# Altium schematic symbol library Elreg_Sender.SchLib: 58 symbols
Pins are listed as number, name and electrical type; pins without a type are passive.

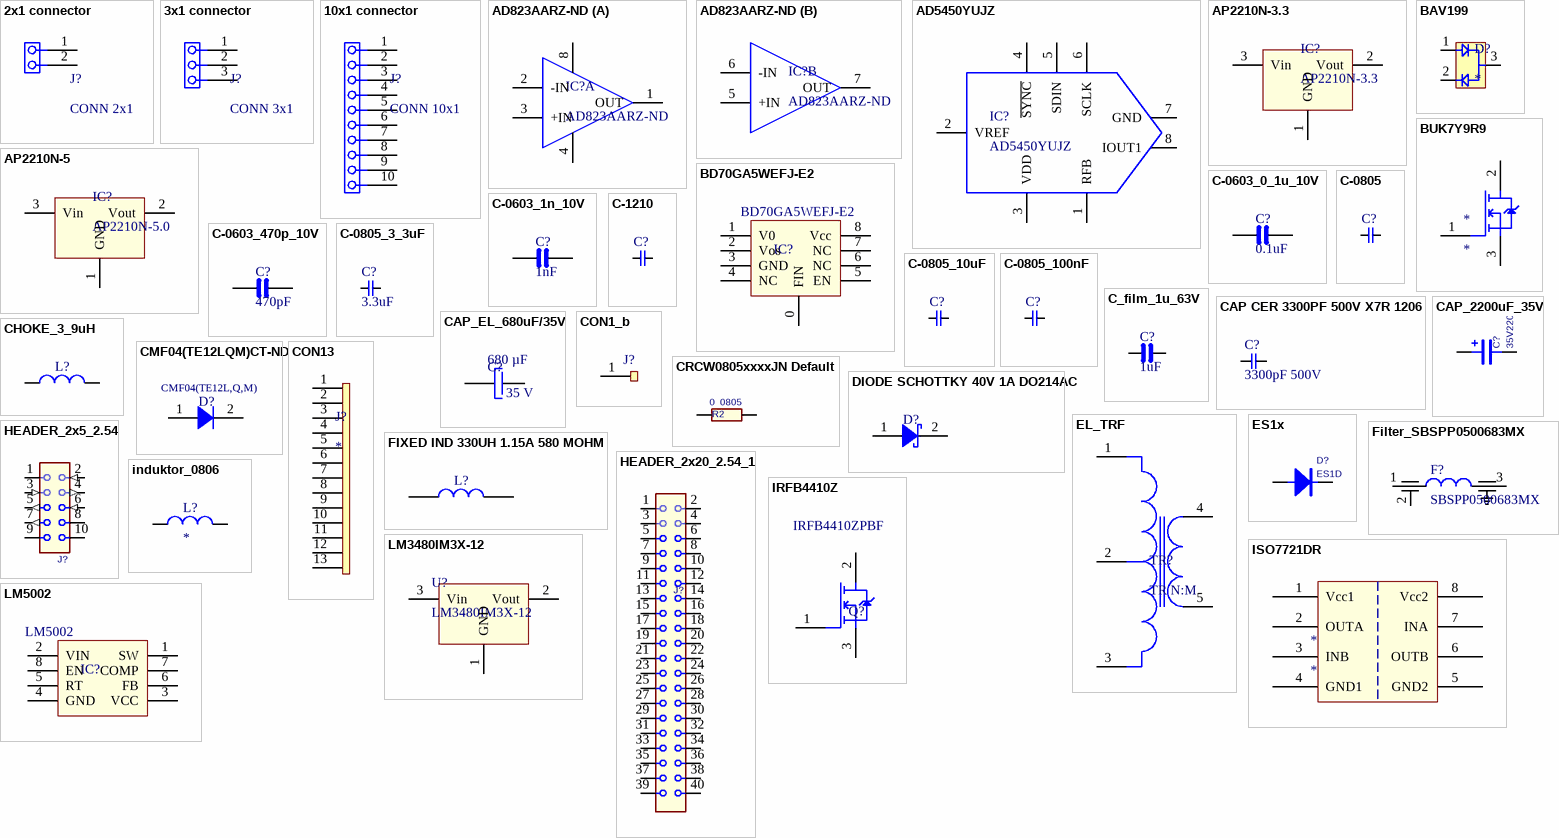
[diagram p0: symbols 2x1 connector to LM5002]

## 2x1 connector
designator J?, comment CONN 2x1
footprint WAGO_2_pins
pins: 1 Vout, 2 Vout

## 3x1 connector
designator J?, comment CONN 3x1
footprint WAGO-3_pins (3 pin connector)
pins: 1 Vout, 2 Vout, 3 Vout

## 10x1 connector
designator J?, comment CONN 10x1
footprint CONN 10x1
pins: 1 Vout, 2 Vout, 3 Vout, 4 Vout, 5 Vout, 6 Vout, 7 Vout, 8 Vout, 9 Vout, 10 Vout

## AD823AARZ-ND
designator IC?
IC OPAMP JFET 16MHZ RRO 8-MSOP; Supplier 1: Digi-Key; Supplier Part Number 1: AD823ARZ-ND
footprint TSOP65P280X110-8N (TSOP, 8-Leads, Body 2.90x1.60mm, Pitch 0.65mm, IPC Medium Density)
footprint SOIC-8 (TSOP, 8-Leads, Body 4.90x3.90mm, Pitch 1.27mm, IPC Medium Density)
part A pins: 1 OUT, 2 -IN, 3 +IN, 4 -Vs, 8 +Vs
part B pins: 5 +IN, 6 -IN, 7 OUT

## AD5450YUJZ
designator IC?
IC DAC 8BIT MULT 50MHZ TSOT23-8; Supplier 1: Digi-Key; Supplier Part Number 1: AD5450YUJZ-REEL7TR-ND
footprint TSOP65P280X110-8N (TSOP, 8-Leads, Body 2.90x1.60mm, Pitch 0.65mm, IPC Medium Density)
pins: 1 RFB, 2 VREF, 3 VDD, 4 ~{SYNC}, 5 SDIN, 6 SCLK, 7 GND, 8 IOUT1

## AP2210N-3.3
designator IC?
AP2210N-3.3TRG1DICT-ND
footprint SOT23-3 (SOT23, 3-Leads, Body 2.90x2.55mm, Pitch 0.95mm, IPC Medium Density)
pins: 1 GND, 2 Vout, 3 Vin

## AP2210N-5
designator IC?, comment AP2210N-5.0
AP2210N-5.0TRG1DICT-ND
footprint SOT23-3 (SOT23, 3-Leads, Body 2.90x2.55mm, Pitch 0.95mm, IPC Medium Density)
pins: 1 GND, 2 Vout, 3 Vin

## BAV199
designator D?
footprint SOT90P240X100-3N (SOT23, 3-Leads, Body 2.90x2.40mm, Pitch 0.90mm, IPC Medium Density)
footprint BAV199 (SOT23, 3-Leads, Body 2.90x2.40mm, Pitch 0.90mm, IPC Medium Density)
pins: 1 GND, 2 GND, 3 GND

## BD70GA5WEFJ-E2
designator IC?  (value not drawn)
BD70GA5WEFJ-E2; Manufacturer 1: Texas Instruments; Manufacturer Part Number 1: LM5002SD/NOPB; Description 1: IC REG MULT CONFIG ISO ADJ 8WSON; Category 1: Integrated Circuits (ICs); Function: Step-Up, Step-Up/Step-Down; Output Configuration: Positive, Isolation Capable; Topology: Boost, Flyback, Forward Converter, SEPIC; Output Type: Adjustable; Number of Outputs: 1; Voltage - Input (Min): 3.1V; Voltage - Input (Max): 75V; Voltage - Output (Max): 76V (Switch); Current - Output: 400mA (Switch); Frequency - Switching: 50kHz ~ 1.5MHz; Synchronous Rectifier: No; Supplier 1: Digi-Key; Supplier Part Number 1: LM5002SD/NOPBTR-ND; RoHS 1: RoHS Compliant; Stock 1: 3000; Pricing 1: 1000=1.9656, 2000=1.86732, 5000=1.79712 (USD); Packaging: Tape & Reel (TR); Part Status: Active; Voltage - Output (Min/Fixed): 3.1V; Operating Temperature: -40°C ~ 125°C (TJ); Mounting Type: Surface Mount; Package / Case: 8-WDFN Exposed Pad; Supplier Device Package: 8-WSON (4x4); ComponentLink1URL: http://www.ti.com/lit/ds/symlink/lm5002.pdf; ComponentLink1Description: http://www.ti.com/lit/ds/symlink/lm5002.pdf; Base Part Number: BD70GA5WEFJ-E2
footprint HTSOP-J8 (TSOP, 8-Leads, Body 4.90x3.90mm, Pitch 1.27mm, IPC Medium Density)
pins: 0 FIN, 1 V0, 2 Vos, 3 GND, 4 NC, 5 EN, 6 NC, 7 NC, 8 Vcc

## BUK7Y9R9
designator *
footprint BUK7Y9R) (MOS FET)
pins: 1 G, 2 G, 3 G

## C-0603_0_1u_10V
designator C?, comment 0.1uF
CAP CER 0.1UF 10V X7R 0603; Manufacturer Part Number: 885012206020
footprint C-0603 (Capacitors 0603)
pins: 1, 2

## C-0603_1n_10V
designator C?, comment 1nF
CAP CER 1000PF 10V C0G/NP0 0603; Manufacturer Part Number: 885012006014
footprint C-0603 (Capacitors 0603)
pins: 1, 2

## C-0603_470p_10V
designator C?, comment 470pF
CAP CER 470p 10V C0G/NP0 0603; Manufacturer Part Number: 885012006014
footprint C-0603 (Capacitors 0603)
pins: 1, 2

## C-0805
designator C?
Manufacturer 1: Yageo; Manufacturer Part Number 1: CC1206KKX7RBBB332; Tolerance: ±10%; Voltage - Rated: 500V; Temperature Coefficient: X7R; Notification: Current market demand for these product types have resulted in fluctuating and extending lead times. Lead times may differ.; Description 1: CAP CER 3300PF 500V X7R 1206; Category 1: Capacitors; Packaging: Cut Tape (CT); Part Status: Active; Operating Temperature: -55°C ~ 125°C; Features: -; Ratings: -; Applications: General Purpose; Failure Rate: -; Mounting Type: Surface Mount, MLCC; Package / Case: 1206 (3216 Metric); Size / Dimension: 0.126" L x 0.063" W (3.20mm x 1.60mm); Height - Seated (Max): -; Thickness (Max): 0.057" (1.45mm); Lead Spacing: -; Lead Style: -; ComponentLink1URL: http://www.yageo.com/documents/recent/UPY-NP0X7R_MV_100-to-630V_21.pdf; ComponentLink1Description: http://www.yageo.com/documents/recent/UPY-NP0X7R_MV_100-to-630V_21.pdf; Supplier 1: Digi-Key; Supplier Part Number 1: 311-1506-1-ND; RoHS 1: RoHS Compliant; Stock 1: 4928; Pricing 1: 1=0.31, 10=0.214, 100=0.1085, 500=0.07424, 1000=0.06568 (USD)
footprint C-0805 (0805)
pins: 1 G, 2 G

## C-0805_3_3uF
designator C?, comment 3.3uF
Manufacturer 1: Yageo; Manufacturer Part Number 1: CC1206KKX7RBBB332; Tolerance: ±10%; Voltage - Rated: 500V; Temperature Coefficient: X7R; Notification: Current market demand for these product types have resulted in fluctuating and extending lead times. Lead times may differ.; Description 1: CAP CER 3300PF 500V X7R 1206; Category 1: Capacitors; Packaging: Cut Tape (CT); Part Status: Active; Operating Temperature: -55°C ~ 125°C; Features: -; Ratings: -; Applications: General Purpose; Failure Rate: -; Mounting Type: Surface Mount, MLCC; Package / Case: 1206 (3216 Metric); Size / Dimension: 0.126" L x 0.063" W (3.20mm x 1.60mm); Height - Seated (Max): -; Thickness (Max): 0.057" (1.45mm); Lead Spacing: -; Lead Style: -; ComponentLink1URL: http://www.yageo.com/documents/recent/UPY-NP0X7R_MV_100-to-630V_21.pdf; ComponentLink1Description: http://www.yageo.com/documents/recent/UPY-NP0X7R_MV_100-to-630V_21.pdf; Supplier 1: Digi-Key; Supplier Part Number 1: 311-1506-1-ND; RoHS 1: RoHS Compliant; Stock 1: 4928; Pricing 1: 1=0.31, 10=0.214, 100=0.1085, 500=0.07424, 1000=0.06568 (USD)
footprint C-0805 (0805)
pins: 1 G, 2 G

## C-0805_10uF
designator C?
Manufacturer 1: Yageo; Manufacturer Part Number 1: CC1206KKX7RBBB332; Tolerance: ±10%; Voltage - Rated: 500V; Temperature Coefficient: X7R; Notification: Current market demand for these product types have resulted in fluctuating and extending lead times. Lead times may differ.; Description 1: CAP CER 3300PF 500V X7R 1206; Category 1: Capacitors; Packaging: Cut Tape (CT); Part Status: Active; Operating Temperature: -55°C ~ 125°C; Features: -; Ratings: -; Applications: General Purpose; Failure Rate: -; Mounting Type: Surface Mount, MLCC; Package / Case: 1206 (3216 Metric); Size / Dimension: 0.126" L x 0.063" W (3.20mm x 1.60mm); Height - Seated (Max): -; Thickness (Max): 0.057" (1.45mm); Lead Spacing: -; Lead Style: -; ComponentLink1URL: http://www.yageo.com/documents/recent/UPY-NP0X7R_MV_100-to-630V_21.pdf; ComponentLink1Description: http://www.yageo.com/documents/recent/UPY-NP0X7R_MV_100-to-630V_21.pdf; Supplier 1: Digi-Key; Supplier Part Number 1: 311-1506-1-ND; RoHS 1: RoHS Compliant; Stock 1: 4928; Pricing 1: 1=0.31, 10=0.214, 100=0.1085, 500=0.07424, 1000=0.06568 (USD)
footprint C-0805 (0805)
pins: 1 G, 2 G

## C-0805_100nF
designator C?
Manufacturer 1: Yageo; Manufacturer Part Number 1: CC1206KKX7RBBB332; Tolerance: ±10%; Voltage - Rated: 500V; Temperature Coefficient: X7R; Notification: Current market demand for these product types have resulted in fluctuating and extending lead times. Lead times may differ.; Description 1: CAP CER 3300PF 500V X7R 1206; Category 1: Capacitors; Packaging: Cut Tape (CT); Part Status: Active; Operating Temperature: -55°C ~ 125°C; Features: -; Ratings: -; Applications: General Purpose; Failure Rate: -; Mounting Type: Surface Mount, MLCC; Package / Case: 1206 (3216 Metric); Size / Dimension: 0.126" L x 0.063" W (3.20mm x 1.60mm); Height - Seated (Max): -; Thickness (Max): 0.057" (1.45mm); Lead Spacing: -; Lead Style: -; ComponentLink1URL: http://www.yageo.com/documents/recent/UPY-NP0X7R_MV_100-to-630V_21.pdf; ComponentLink1Description: http://www.yageo.com/documents/recent/UPY-NP0X7R_MV_100-to-630V_21.pdf; Supplier 1: Digi-Key; Supplier Part Number 1: 311-1506-1-ND; RoHS 1: RoHS Compliant; Stock 1: 4928; Pricing 1: 1=0.31, 10=0.214, 100=0.1085, 500=0.07424, 1000=0.06568 (USD)
footprint C-0805 (0805)
pins: 1 G, 2 G

## C-1210
designator C?
Manufacturer 1: Yageo; Manufacturer Part Number 1: CC1206KKX7RBBB332; Tolerance: ±10%; Voltage - Rated: 500V; Temperature Coefficient: X7R; Notification: Current market demand for these product types have resulted in fluctuating and extending lead times. Lead times may differ.; Description 1: CAP CER 3300PF 500V X7R 1206; Category 1: Capacitors; Packaging: Cut Tape (CT); Part Status: Active; Operating Temperature: -55°C ~ 125°C; Features: -; Ratings: -; Applications: General Purpose; Failure Rate: -; Mounting Type: Surface Mount, MLCC; Package / Case: 1206 (3216 Metric); Size / Dimension: 0.126" L x 0.063" W (3.20mm x 1.60mm); Height - Seated (Max): -; Thickness (Max): 0.057" (1.45mm); Lead Spacing: -; Lead Style: -; ComponentLink1URL: http://www.yageo.com/documents/recent/UPY-NP0X7R_MV_100-to-630V_21.pdf; ComponentLink1Description: http://www.yageo.com/documents/recent/UPY-NP0X7R_MV_100-to-630V_21.pdf; Supplier 1: Digi-Key; Supplier Part Number 1: 311-1506-1-ND; RoHS 1: RoHS Compliant; Stock 1: 4928; Pricing 1: 1=0.31, 10=0.214, 100=0.1085, 500=0.07424, 1000=0.06568 (USD)
footprint CAP-1210 (Capacitors, SMD, 1210)
pins: 1 G, 2 G

## C_film_1u_63V
designator C?, comment 1uF
B32529D1105K289, Film Capacitors  1u, 63V; Manufacturer Part Number: B32529D1105K289
footprint Capacitor_5mm
pins: 1, 2

## CAP CER 3300PF 500V X7R 1206
designator C?, comment 3300pF 500V
Manufacturer 1: Yageo; Manufacturer Part Number 1: CC1206KKX7RBBB332; Tolerance: ±10%; Temperature Coefficient: X7R; Notification: Current market demand for these product types have resulted in fluctuating and extending lead times. Lead times may differ.; Description 1: CAP CER 3300PF 500V X7R 1206; Category 1: Capacitors; Packaging: Cut Tape (CT); Part Status: Active; Voltage - Rated: 500V; Operating Temperature: -55°C ~ 125°C; Features: -; Ratings: -; Applications: General Purpose; Failure Rate: -; Mounting Type: Surface Mount, MLCC; Package / Case: 1206 (3216 Metric); Size / Dimension: 0.126" L x 0.063" W (3.20mm x 1.60mm); Height - Seated (Max): -; Thickness (Max): 0.057" (1.45mm); Lead Spacing: -; Lead Style: -; ComponentLink1URL: http://www.yageo.com/documents/recent/UPY-NP0X7R_MV_100-to-630V_21.pdf; ComponentLink1Description: http://www.yageo.com/documents/recent/UPY-NP0X7R_MV_100-to-630V_21.pdf; Supplier 1: Digi-Key; Supplier Part Number 1: 311-1506-1-ND; RoHS 1: RoHS Compliant; Stock 1: 4928; Pricing 1: 1=0.31, 10=0.214, 100=0.1085, 500=0.07424, 1000=0.06568 (USD)
footprint CAP1206
pins: 1 G, 2 G

## CAP_2200uF_35V
designator C?, comment 35V2200u
Capacitor; Manufacturer: Kemet; Manufacturer Part Number: ESH228M035AM7AA; Capacitance: 2200µF; Tolerance: ±20%; Voltage Rating: 35V; Lifetime @ Temp.: 2000 Hrs @ 105°C; Supplier 1: Digi-Key; Supplier Part Number 1: 399-6572-ND; RoHS: RoHS Compliant; Category: Capacitors; Stock 1: 1972; Pricing 1: 1=0.98, 10=0.77, 50=0.6676, 100=0.5778, 250=0.5136, 500=0.43656, 1000=0.3852, 2500=0.35952, 5000=0.34668 (USD); Packaging: Bulk; ESR (Equivalent Series Resistance): -; Operating Temperature: -40°C ~ 105°C; Type: -; Applications: General Purpose; Ripple Current: -; Impedance: -; Lead Spacing: 0.295" (7.50mm); Size / Dimension: 0.630" Dia (16.00mm); Height - Seated (Max): 1.063" (27.00mm); Surface Mount Land Size: -; Mounting Type: Through Hole; Package / Case: Radial, Can; ComponentLink1URL: http://www.kemet.com/docfinder?Partnumber=ESH228M035AM7AA; ComponentLink1Description: http://www.kemet.com/docfinder?Partnumber=ESH228M035AM7AA
footprint CAP_16X25 (Polar Capacitors)
pins: 1, 2

## CAP_EL_680uF/35V
designator C?  Capacitance: 680 µF  Rated Voltage: 35 V  (hidden comment: *)
Manufacturer 1: Panasonic; Manufacturer Part Number 1: EEU-FR1V681; Description 1: Cap Aluminum Lytic 680uF 35V 20% (10 X 20mm) Radial 5mm 2180mA 10000h 105C Bulk; Lifetime@Temperature: 10000 Hrs @ 105°C; Impedance: 0.02 O; Type: Radial; Ripple Current: 2180 mA; Supplier 1: Digi-Key; Supplier Part Number 1: P14514-ND; Stock 1: 51236; Pricing 1: 1=0.9, 10=0.686, 100=0.4909, 500=0.3801, 1000=0.3273, 2500=0.3062, 5000=0.2903 (USD); Case Size/Dimension: Ø 10 x 20 mm; Operating Temp-Max: 105 °C; Operating Temp Range: -40 to +105 °C; Series: FR; ComponentLink1URL: http://industrial.panasonic.com/www-data/pdf/ABA0000/ABA0000CE132.pdf; ComponentLink1Description: http://industrial.panasonic.com/www-data/pdf/ABA0000/ABA0000CE132.pdf; ComponentLink2URL: http://www.farnell.com/datasheets/1855691.pdf; ComponentLink2Description: http://www.farnell.com/datasheets/1855691.pdf; ComponentLink3URL: http://uk.rs-online.com/webdocs/0e4e/0900766b80e4e9bf.pdf; ComponentLink3Description: http://uk.rs-online.com/webdocs/0e4e/0900766b80e4e9bf.pdf; ComponentLink4URL: https://www.alliedelec.com/m/d/c64d79662f3315ec05811b9c7d24cbaa.pdf; ComponentLink4Description: https://www.alliedelec.com/m/d/c64d79662f3315ec05811b9c7d24cbaa.pdf
footprint CAP_TR_5mm
pins: 1 Vout, 2 Vout

## CHOKE_3_9uH
designator L?  (value not drawn)
Manufacturer 1: BOURNS; Manufacturer Part Number 1: SRR1260-331K; Description 1: BOURNS - SRR1260-331K - INDUCTOR, SHIELDED, 330UH, 1.1A, SMD; Inductance: 330; RMS Current (Irms): 1.15; Inductor Construction: Shielded; Saturation Current (Isat): 1.1; Product Range: SRR1260 Series; Power Inductor Case: 12.5mm x 12.5mm x 6; Q Factor: 22; Supplier 1: Farnell; Supplier Part Number 1: 2458509; RoHS 1: YES; Stock 1: 143; Pricing 1: 1=0.843, 10=0.721, 25=0.661, 50=0.6, 100=0.552 (GBP); ComponentLink1URL: http://www.farnell.com/datasheets/2251090.pdf; ComponentLink1Description: http://www.farnell.com/datasheets/2251090.pdf
footprint CHOKE_3_9uH
pins: 1 A, 2 A

## CMF04(TE12LQM)CT-ND
designator D?  Manufacturer Part Number 1: CMF04(TE12L,Q,M)  (hidden comment: *)
Manufacturer 1: Toshiba Semiconductor and Storage; Diode Type: Standard; Current - Average Rectified (Io): 500mA; Speed: Fast Recovery =< 500ns, > 200mA (Io); Description 1: DIODE GEN PURP 800V 500MA MFLAT; Category 1: Discrete Semiconductor Products; Packaging: Cut Tape (CT); Part Status: Active; Capacitance @ Vr, F: -; Mounting Type: Surface Mount; Package / Case: SOD-128; Supplier Device Package: M-FLAT (2.4x3.8); Operating Temperature - Junction: -40°C ~ 150°C; Base Part Number: CMF04; ComponentLink1URL: https://toshiba.semicon-storage.com/info/docget.jsp?did=10605&prodName=CMF04; ComponentLink1Description: https://toshiba.semicon-storage.com/info/docget.jsp?did=10605&prodName=CMF04; Supplier 1: Digi-Key; Supplier Part Number 1: CMF04(TE12LQM)CT-ND; RoHS 1: RoHS Compliant; Stock 1: 9000; Pricing 1: 1=0.45, 10=0.381, 100=0.2855, 500=0.20938, 1000=0.16179 (USD)
footprint DFN380P470X45-2N (DFN, 2-Leads, Body 2.40x4.70mm, Pitch 3.80mm, IPC Medium Density)
pins: 1 G, 2 G

## CON1_b
designator J?  (value not drawn)
footprint CONN1 _b
footprint CONN1 _b
pins: 1 23

## CON13
designator J?
footprint CONN13
pins: 1 24, 2 25, 3 26, 4 27, 5 28, 6 29, 7 30, 8 31, 9 32, 10 33, 11 34, 12 35, 13 36

## CRCW0805xxxxJN Default
designator R2, comment 0  0805
RES xx OHM 1/8W 5% 0805 SMD; Category 1: Resistors
footprint RES-0805 (Resistor, SMD, 0805)
pins: 1, 2

## DIODE SCHOTTKY 40V 1A DO214AC
designator D?  (value not drawn)
Manufacturer 1: Comchip Technology; Manufacturer Part Number 1: CDBA140-G; Description 1: DIODE SCHOTTKY 40V 1A DO214AC; Category 1: Discrete Semiconductor Products; Diode Type: Schottky; Current - Average Rectified (Io): 1A; Speed: Fast Recovery =< 500ns, > 200mA (Io); Supplier 1: Digi-Key; Supplier Part Number 1: 641-1015-1-ND; RoHS 1: RoHS Compliant; Stock 1: 527910; Pricing 1: 1=0.37, 10=0.338, 100=0.1893, 500=0.1014, 1000=0.06895 (USD); Packaging: Cut Tape (CT); Part Status: Active; Capacitance @ Vr, F: -; Mounting Type: Surface Mount; Package / Case: DO-214AC, SMA; Supplier Device Package: DO-214AC (SMA); Operating Temperature - Junction: -65°C ~ 125°C; Base Part Number: CDBA140; ComponentLink1URL: http://www.comchiptech.com/admin/files/product/CDBA140-HF%20Thru192841.%20CDBA1100-HF%20RevB.pdf; ComponentLink1Description: http://www.comchiptech.com/admin/files/product/CDBA140-HF%20Thru192841.%20CDBA1100-HF%20RevB.pdf
footprint DFN380P520X45-2N (DFN, 2-Leads, Body 2.50x5.20mm, Pitch 3.80mm, IPC Medium Density)
pins: 1 A, 2 A

## EL_TRF
designator TR?, comment TR N:M
footprint EL_TRAFO2 (23x11mmCoil Former: B6581, ferrite   B65811J0000R087)
pins: 1 G, 2 G, 3 G, 4 G, 5 G

## ES1x
designator D?, comment ES1D
Diode; Manufacturer: Fairchild/ON Semiconductor; Diode Type: Standard; Voltage - DC Reverse (Vr) (Max): 200V; Current - Average Rectified (Io): 1A; Voltage - Forward (Vf) (Max) @ If: 920mV @ 1A; Speed: Fast Recovery =< 500ns, > 200mA (Io); Reverse Recovery Time (trr): 15ns; Current - Reverse Leakage @ Vr: 5μA @ 200V; Capacitance @ Vr, F: 7pF @ 4V, 1MHz; Supplier 1: Digi-Key; Supplier Part Number 1: ES1DFSTR-ND; Manufacturer Part Number: ES1D; RoHS: RoHS Compliant; Category: Discrete Semiconductor Products; Stock 1: 135000; Pricing 1: 7500=0.0567, 15000=0.0504, 37500=0.04725, 52500=0.0419, 187500=0.04032 (USD); Packaging: Tape & Reel (TR); Part Status: Active; Mounting Type: Surface Mount; Package / Case: DO-214AC, SMA; Supplier Device Package: SMA (DO-214AC); Operating Temperature - Junction: -55°C ~ 150°C; ComponentLink1URL: https://www.fairchildsemi.com/datasheets/ES/ES1A.pdf; ComponentLink1Description: https://www.fairchildsemi.com/datasheets/ES/ES1A.pdf
footprint SMA (DO-214AC)
footprint SMA (DO-214AC)
pins: 1 A, 2 C

## Filter_SBSPP0500683MX
designator F?, comment SBSPP0500683MX
footprint Filter_SBSPP0500
pins: 1, 2, 3

## FIXED IND 330UH 1.15A 580 MOHM
designator L?  (value not drawn)
Manufacturer 1: BOURNS; Manufacturer Part Number 1: SRR1260-331K; Description 1: BOURNS - SRR1260-331K - INDUCTOR, SHIELDED, 330UH, 1.1A, SMD; Inductance: 330; RMS Current (Irms): 1.15; Inductor Construction: Shielded; Saturation Current (Isat): 1.1; Product Range: SRR1260 Series; Power Inductor Case: 12.5mm x 12.5mm x 6; Q Factor: 22; Supplier 1: Farnell; Supplier Part Number 1: 2458509; RoHS 1: YES; Stock 1: 143; Pricing 1: 1=0.843, 10=0.721, 25=0.661, 50=0.6, 100=0.552 (GBP); ComponentLink1URL: http://www.farnell.com/datasheets/2251090.pdf; ComponentLink1Description: http://www.farnell.com/datasheets/2251090.pdf
footprint IND
pins: 1 A, 2 A

## HEADER_2x5_2.54
designator J?, comment Header 2X5  (value not drawn)
Conn Unshrouded Header HDR 10 POS 2.54mm Solder ST Thru-Hole; Manufacturer 1: TE Connectivity; Manufacturer Part Number 1: 826656-5; Lead Time: 8 weeks; Peak Solder Temperature: 240 or 260 or 265 deg C; Category 1: Connectors; Supplier 1: Arrow; Supplier Part Number 1: 41579523S111189N5665; RoHS 1: CHINA ROHS: Compliant / EU ROHS: Compliant; Description 1: Conn Unshrouded Header HDR 10 POS 2.54mm Solder ST Thru-Hole; Package Quantity: 4800; Termination Finish: Sn; EU_ROHS_PROD_EXEMPTION_BY_SUPP: N/R; ComponentLink1URL: http://components.arrow.com/partservice/dataview/altium/41579523S111189N5665?apiKey=aa438727d59eed98c4bed826d8d949c84cb5e685b92bf87346a0226bd2658797; ComponentLink1Description: http://components.arrow.com/partservice/dataview/altium/41579523S111189N5665?apiKey=aa438727d59eed98c4bed826d8d949c84cb5e685b92bf87346a0226bd2658797
footprint PIN-2X5-2.54-1.0 (Pin Header)
footprint PIN-2X5-2.54-1.0 (Pin Header)
pins: 1, 2 DSR (in), 3 RX (in), 4 RTS (out), 5 TX (out), 6 CTS (in), 7 DTR (out), 8, 9 +PWR (power), 10

## HEADER_2x20_2.54_1
designator J?, comment Header 2X20  (value not drawn)
Manufacturer 1: TE Connectivity; Manufacturer Part Number 1: 826656-5; Description 1: Conn Unshrouded Header HDR 10 POS 2.54mm Solder ST Thru-Hole; Lead Time: 8 weeks; Peak Solder Temperature: 240 or 260 or 265 deg C; Supplier 1: Arrow; Supplier Part Number 1: 41579523S111189N5665; RoHS 1: CHINA ROHS: Compliant / EU ROHS: Compliant; Package Quantity: 4800; Termination Finish: Sn; EU_ROHS_PROD_EXEMPTION_BY_SUPP: N/R
footprint HEADER_2x20_2_54_1mm (Pin Header)
pins: 1, 2 DSR, 3 RX, 4 RTS, 5 TX, 6 CTS, 7 DTR, 8, 9 +PWR (power), 10, 11, 12, 13, 14, 15, 16, 17, 18, 19 (power), 20, 21, 22, 23, 24, 25, 26, 27, 28, 29 (power), 30, 31, 32, 33, 34, 35, 36, 37, 38, 39, 40

## induktor_0806
designator L?
Manufacturer 1: BOURNS; Manufacturer Part Number 1: SRR1260-331K; Description 1: BOURNS - SRR1260-331K - INDUCTOR, SHIELDED, 330UH, 1.1A, SMD; Inductance: 330; RMS Current (Irms): 1.15; Inductor Construction: Shielded; Saturation Current (Isat): 1.1; Product Range: SRR1260 Series; Power Inductor Case: 12.5mm x 12.5mm x 6; Q Factor: 22; Supplier 1: Farnell; Supplier Part Number 1: 2458509; RoHS 1: YES; Stock 1: 143; Pricing 1: 1=0.843, 10=0.721, 25=0.661, 50=0.6, 100=0.552 (GBP); ComponentLink1URL: http://www.farnell.com/datasheets/2251090.pdf; ComponentLink1Description: http://www.farnell.com/datasheets/2251090.pdf
footprint 0805 (SMD, 0805)
pins: 1 A, 2 A

## IRFB4410Z
designator Q?  Manufacturer Part Number 1: IRFB4410ZPBF  (hidden comment: IRFB4410Z)
MOSFET N-CH 100V 97A TO-220AB; Manufacturer 1: INFINEON; Description 1: INFINEON - IRFB4410ZPBF - MOSFET, N, 100V, TO-220AB; Supplier 1: Farnell; Supplier Part Number 1: 1436963; ComponentLink1URL: http://www.farnell.com/datasheets/1911595.pdf; ComponentLink1Description: http://www.farnell.com/datasheets/1911595.pdf; ComponentLink2URL: http://www.farnell.com/datasheets/2157750.pdf; ComponentLink2Description: http://www.farnell.com/datasheets/2157750.pdf; RoHS 1: YES; Stock 1: 2726; Pricing 1: 5=1.13, 25=1.03, 100=0.787, 250=0.74, 500=0.693, 1000=0.622, 5000=0.55 (GBP)
footprint IRFB
pins: 1 G, 2 G, 3 G

## ISO7721DR
designator *
footprint SOIC-8 -ISO (TSOP, 8-Leads, Body 4.90x3.90mm, Pitch 1.27mm, IPC Medium Density)
pins: 1 Vcc1, 2 OUTA, 3 INB, 4 GND1, 5 GND2, 6 OUTB, 7 INA, 8 Vcc2

## LM3480IM3X-12
designator U?
12V regulator LM3480IM3X-12/NOPB
footprint SOT23-3 (SOT23, 3-Leads, Body 2.90x2.55mm, Pitch 0.95mm, IPC Medium Density)
pins: 1 GND, 2 Vout, 3 Vin

## LM5002
designator IC?  Base Part Number: LM5002  (hidden comment: *)
Manufacturer 1: Texas Instruments; Manufacturer Part Number 1: LM5002SD/NOPB; Description 1: IC REG MULT CONFIG ISO ADJ 8WSON; Category 1: Integrated Circuits (ICs); Function: Step-Up, Step-Up/Step-Down; Output Configuration: Positive, Isolation Capable; Topology: Boost, Flyback, Forward Converter, SEPIC; Output Type: Adjustable; Number of Outputs: 1; Voltage - Input (Min): 3.1V; Voltage - Input (Max): 75V; Voltage - Output (Max): 76V (Switch); Current - Output: 400mA (Switch); Frequency - Switching: 50kHz ~ 1.5MHz; Synchronous Rectifier: No; Supplier 1: Digi-Key; Supplier Part Number 1: LM5002SD/NOPBTR-ND; RoHS 1: RoHS Compliant; Stock 1: 3000; Pricing 1: 1000=1.9656, 2000=1.86732, 5000=1.79712 (USD); Packaging: Tape & Reel (TR); Part Status: Active; Voltage - Output (Min/Fixed): 3.1V; Operating Temperature: -40°C ~ 125°C (TJ); Mounting Type: Surface Mount; Package / Case: 8-WDFN Exposed Pad; Supplier Device Package: 8-WSON (4x4); ComponentLink1URL: http://www.ti.com/lit/ds/symlink/lm5002.pdf; ComponentLink1Description: http://www.ti.com/lit/ds/symlink/lm5002.pdf
footprint SOIC127P600X205-8N (SOIC, 8-Leads, Body 4.90x3.90mm, Pitch 1.27mm, IPC Medium Density)
pins: 1 SW, 2 VIN, 3 VCC, 4 GND, 5 RT, 6 FB, 7 COMP, 8 EN

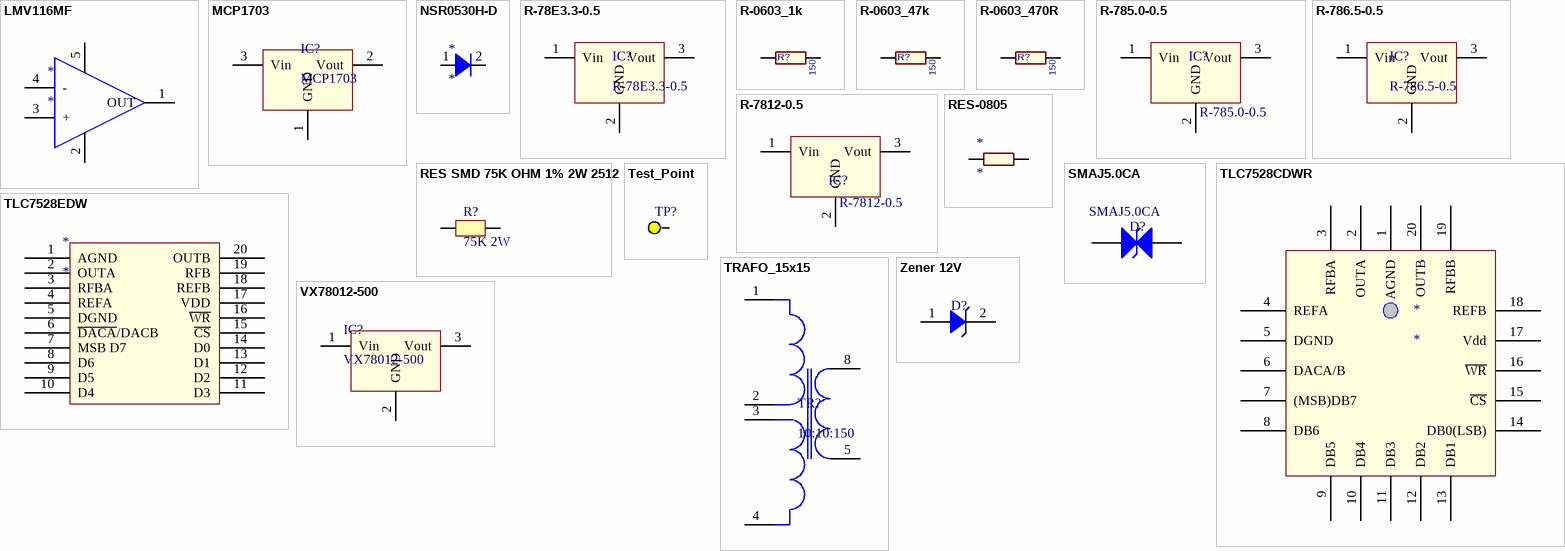
[diagram p1: symbols LMV116MF to Zener 12V]

## LMV116MF
designator *
footprint SOT-23-5 (5 pin SOT23)
pins: 1 OUT, 2 -Vs, 3 +, 4 -, 5 +Vs

## MCP1703
designator IC?
footprint SOT95P255X145-3N (SOT23, 3-Leads, Body 2.90x2.55mm, Pitch 0.95mm, IPC Medium Density)
footprint SOT23-3 (SOT23, 3-Leads, Body 2.90x2.55mm, Pitch 0.95mm, IPC Medium Density)
pins: 1 GND, 2 Vout, 3 Vin

## NSR0530H-D
designator *
footprint SOD-323 (diode)
pins: 1 G, 2 G

## R-78E3.3-0.5
designator IC?
Manufacturer 1: RECOM POWER; Description 1: RECOM POWER - R-78E3.3-0.5 - DC/DC CONVERTER, 1.65W, 3.3V, 0.5A, SIP; No. of Outputs: 1 Output; Output Power Max: 1.65; Output Current Max: 500; DC / DC Converter Output Type: Fixed; DC / DC Converter Mounting: Through Hole; Input Voltage DC Min: 6; Supplier 1: Newark; Supplier Part Number 1: 62X9498; Manufacturer Part Number 1: R-78E3.3-0.5; RoHS 1: YES; Stock 1: 245; Pricing 1: 1=3.57, 10=3.47, 25=3.36, 50=3.18, 100=3.01, 250=2.94, 500=2.86 (USD); Depth: 11.6; ComponentLink1URL: http://www.farnell.com/datasheets/1833229.pdf; ComponentLink1Description: http://www.farnell.com/datasheets/1833229.pdf
footprint VREG
pins: 1 Vin, 2 GND, 3 Vout

## R-0603_1k
designator R?, comment Resistance (Ohms): 150  (hidden comment: 1k)
RES SMD 1K OHM 1% 0.4W 0805; Manufacturer 1: Vishay Dale; Manufacturer Part Number 1: CRCW0805150RJNEA; Manufacturer Part Number: ESR10EZPF1001; Description 1: RES 150 OHM 1/8W 5% 0805 SMD; Category 1: Resistors; Tolerance: ±5%; Power (Watts): 0.125W, 1/8W; Temperature Coefficient: ±200ppm/°C; Description 2: Thick Film Resistors - SMD 1/8watt 150ohms 5% 200ppm; Category 2: Thick Film Resistors - SMD; Power Rating: 125 mW (1/8 W); Resistance: 150 Ohms; Voltage Rating: 150 V; Description 3: VISHAY DALE - CRCW0805150RJNEA - RESISTOR, THICK FILM, 150 OHM, 125mW, 5%; Product Range: VISHAY - CRCW Series; Resistance Tolerance: ± 5%; Resistor Case Style: 0805 ^2012 Metric]; Resistor Element Type: Thick Film; No. of Pins: 2; Supplier 1: Digi-Key; Supplier Part Number 1: 541-150ADKR-ND; RoHS 1: RoHS Compliant; Packaging: Digi-Reel®; Composition: Thick Film; Features: Automotive AEC-Q200 Qualified; Package / Case: 0805 (2012 Metric); Supplier Device Package: 0805 (2012 Metric); Size / Dimension: 0.079" L x 0.049" W (2.00mm x 1.25mm); Height: 0.020" (0.50mm); ComponentLink1URL: http://www.vishay.com/doc?20035; ComponentLink1Description: http://www.vishay.com/doc?20035; Supplier 2: Mouser; Supplier Part Number 2: 71-CRCW0805150RJNEA; Manufacturer 2: Vishay; Manufacturer Part Number 2: CRCW0805150RJNEA; RoHS 2: RoHS Compliant By Exemption; Dimensions: 1.25 mm W x 2 mm L x 0.45 mm H; Operating Temperature Range: - 55 C to + 155 C; Product: Thick Film Resistors SMD; Series: CRCW; Termination Style: SMD/SMT; Case Code - in: 0805; Case Code - mm: 2012; Product Category: 0805 Thick Film Chip Resistors; Standard Pack Qty: 5000; RoHS - Mouser: E; Minimum Order Quantity: 1; Reeling: True; ComponentLink2URL: http://www.mouser.com/ds/2/427/dcrcwe3-109170.pdf; ComponentLink2Description: http://www.mouser.com/ds/2/427/dcrcwe3-109170.pdf; Supplier 3: Farnell; Supplier Part Number 3: 1514819; Manufacturer 3: VISHAY DALE; Manufacturer Part Number 3: CRCW0805150RJNEA; RoHS 3: YES; ComponentLink3URL: http://www.farnell.com/cad/1552534.zip; ComponentLink3Description: http://www.farnell.com/cad/1552534.zip
footprint R-0603 (Resistor  0603)
pins: 1, 2

## R-0603_47k
designator R?, comment Resistance (Ohms): 150  (hidden comment: 47k)
RES SMD 47k 1% 0.4W 0805; Manufacturer 1: Vishay Dale; Manufacturer Part Number 1: CRCW0805150RJNEA; Manufacturer Part Number: ESR10EZPF1001; Description 1: RES 150 OHM 1/8W 5% 0805 SMD; Category 1: Resistors; Tolerance: ±5%; Power (Watts): 0.125W, 1/8W; Temperature Coefficient: ±200ppm/°C; Description 2: Thick Film Resistors - SMD 1/8watt 150ohms 5% 200ppm; Category 2: Thick Film Resistors - SMD; Power Rating: 125 mW (1/8 W); Resistance: 150 Ohms; Voltage Rating: 150 V; Description 3: VISHAY DALE - CRCW0805150RJNEA - RESISTOR, THICK FILM, 150 OHM, 125mW, 5%; Product Range: VISHAY - CRCW Series; Resistance Tolerance: ± 5%; Resistor Case Style: 0805 ^2012 Metric]; Resistor Element Type: Thick Film; No. of Pins: 2; Supplier 1: Digi-Key; Supplier Part Number 1: 541-150ADKR-ND; RoHS 1: RoHS Compliant; Packaging: Digi-Reel®; Composition: Thick Film; Features: Automotive AEC-Q200 Qualified; Package / Case: 0805 (2012 Metric); Supplier Device Package: 0805 (2012 Metric); Size / Dimension: 0.079" L x 0.049" W (2.00mm x 1.25mm); Height: 0.020" (0.50mm); ComponentLink1URL: http://www.vishay.com/doc?20035; ComponentLink1Description: http://www.vishay.com/doc?20035; Supplier 2: Mouser; Supplier Part Number 2: 71-CRCW0805150RJNEA; Manufacturer 2: Vishay; Manufacturer Part Number 2: CRCW0805150RJNEA; RoHS 2: RoHS Compliant By Exemption; Dimensions: 1.25 mm W x 2 mm L x 0.45 mm H; Operating Temperature Range: - 55 C to + 155 C; Product: Thick Film Resistors SMD; Series: CRCW; Termination Style: SMD/SMT; Case Code - in: 0805; Case Code - mm: 2012; Product Category: 0805 Thick Film Chip Resistors; Standard Pack Qty: 5000; RoHS - Mouser: E; Minimum Order Quantity: 1; Reeling: True; ComponentLink2URL: http://www.mouser.com/ds/2/427/dcrcwe3-109170.pdf; ComponentLink2Description: http://www.mouser.com/ds/2/427/dcrcwe3-109170.pdf; Supplier 3: Farnell; Supplier Part Number 3: 1514819; Manufacturer 3: VISHAY DALE; Manufacturer Part Number 3: CRCW0805150RJNEA; RoHS 3: YES; ComponentLink3URL: http://www.farnell.com/cad/1552534.zip; ComponentLink3Description: http://www.farnell.com/cad/1552534.zip
footprint R-0603 (Resistor  0603)
pins: 1, 2

## R-0603_470R
designator R?, comment Resistance (Ohms): 150  (hidden comment: 470R)
RES SMD 470 OHM 1% 0.4W 0805; Manufacturer 1: Vishay Dale; Manufacturer Part Number 1: CRCW0805150RJNEA; Manufacturer Part Number: ESR10EZPF1001; Description 1: RES 150 OHM 1/8W 5% 0805 SMD; Category 1: Resistors; Tolerance: ±5%; Power (Watts): 0.125W, 1/8W; Temperature Coefficient: ±200ppm/°C; Description 2: Thick Film Resistors - SMD 1/8watt 150ohms 5% 200ppm; Category 2: Thick Film Resistors - SMD; Power Rating: 125 mW (1/8 W); Resistance: 150 Ohms; Voltage Rating: 150 V; Description 3: VISHAY DALE - CRCW0805150RJNEA - RESISTOR, THICK FILM, 150 OHM, 125mW, 5%; Product Range: VISHAY - CRCW Series; Resistance Tolerance: ± 5%; Resistor Case Style: 0805 ^2012 Metric]; Resistor Element Type: Thick Film; No. of Pins: 2; Supplier 1: Digi-Key; Supplier Part Number 1: 541-150ADKR-ND; RoHS 1: RoHS Compliant; Packaging: Digi-Reel®; Composition: Thick Film; Features: Automotive AEC-Q200 Qualified; Package / Case: 0805 (2012 Metric); Supplier Device Package: 0805 (2012 Metric); Size / Dimension: 0.079" L x 0.049" W (2.00mm x 1.25mm); Height: 0.020" (0.50mm); ComponentLink1URL: http://www.vishay.com/doc?20035; ComponentLink1Description: http://www.vishay.com/doc?20035; Supplier 2: Mouser; Supplier Part Number 2: 71-CRCW0805150RJNEA; Manufacturer 2: Vishay; Manufacturer Part Number 2: CRCW0805150RJNEA; RoHS 2: RoHS Compliant By Exemption; Dimensions: 1.25 mm W x 2 mm L x 0.45 mm H; Operating Temperature Range: - 55 C to + 155 C; Product: Thick Film Resistors SMD; Series: CRCW; Termination Style: SMD/SMT; Case Code - in: 0805; Case Code - mm: 2012; Product Category: 0805 Thick Film Chip Resistors; Standard Pack Qty: 5000; RoHS - Mouser: E; Minimum Order Quantity: 1; Reeling: True; ComponentLink2URL: http://www.mouser.com/ds/2/427/dcrcwe3-109170.pdf; ComponentLink2Description: http://www.mouser.com/ds/2/427/dcrcwe3-109170.pdf; Supplier 3: Farnell; Supplier Part Number 3: 1514819; Manufacturer 3: VISHAY DALE; Manufacturer Part Number 3: CRCW0805150RJNEA; RoHS 3: YES; ComponentLink3URL: http://www.farnell.com/cad/1552534.zip; ComponentLink3Description: http://www.farnell.com/cad/1552534.zip
footprint R-0603 (Resistor  0603)
pins: 1, 2

## R-785.0-0.5
designator IC?  Manufacturer Part Number 1: R-785.0-0.5  (hidden comment: *)
Manufacturer 1: RECOM POWER; Description 1: RECOM POWER - R-785.0-0.5 - CONVERTER, DC-DC, 5V, 3W; Supplier 1: Farnell; Supplier Part Number 1: 1793142; RoHS 1: YES; Stock 1: 3561; Pricing 1: 1=5.13, 5=4.87, 10=4.36, 50=4.35, 100=4.33 (GBP); ComponentLink1URL: http://www.farnell.com/datasheets/2017554.stp; ComponentLink1Description: http://www.farnell.com/datasheets/2017554.stp; ComponentLink2URL: http://www.farnell.com/datasheets/1833220.pdf; ComponentLink2Description: http://www.farnell.com/datasheets/1833220.pdf
footprint VREG
pins: 1 Vin, 2 GND, 3 Vout

## R-786.5-0.5
designator IC?
Manufacturer 1: Recom Power; Description 1: DC DC CONVERTER 6.5V 3W; Category 1: Power Supplies - Board Mount; Voltage - Input (Min): 8V; Voltage - Input (Max): 32V; Voltage - Output 1: 6.5V; Current - Output (Max): 500mA; Efficiency: 95%; Supplier 1: Digi-Key; Supplier Part Number 1: 945-1039-ND; Manufacturer Part Number 1: R-786.5-0.5; RoHS 1: RoHS Compliant; Stock 1: 3490; Pricing 1: 1=7.49, 5=7.384, 10=7.276, 42=7.0619, 84=6.84798, 126=6.63397, 252=6.42, 504=5.992 (USD); Packaging: Tube; Part Status: Active; Type: Linear Regulator Replacement; Voltage - Output 2: -; Voltage - Output 3: -; Applications: ITE (Commercial); Features: OTP, SCP; Operating Temperature: -40°C ~ 85°C; Mounting Type: Through Hole; Package / Case: 3-SIP Module; Size / Dimension: 0.45" L x 0.30" W x 0.40" H (11.5mm x 7.5mm x 10.2mm); Control Features: -; ComponentLink1URL: https://www.recom-power.com/pdf/Innoline/R-78xx-0.5.pdf; ComponentLink1Description: https://www.recom-power.com/pdf/Innoline/R-78xx-0.5.pdf
footprint VREG
pins: 1 Vin, 2 GND, 3 Vout

## R-7812-0.5
designator IC?  Manufacturer Part Number 1: R-7812-0.5  (hidden comment: *)
Manufacturer 1: RECOM POWER; Description 1: RECOM POWER - R-7812-0.5 - CONVERTER, DC/DC, 0.5A, 12V, SIP3; Supplier 1: Farnell; Supplier Part Number 1: 1793137; RoHS 1: YES; Stock 1: 179; Pricing 1: 1=5.81, 5=5.52, 10=4.93, 50=4.83, 100=4.72 (GBP); ComponentLink1URL: http://www.farnell.com/datasheets/2017554.stp; ComponentLink1Description: http://www.farnell.com/datasheets/2017554.stp; ComponentLink2URL: http://www.farnell.com/datasheets/1833220.pdf; ComponentLink2Description: http://www.farnell.com/datasheets/1833220.pdf
footprint VREG
pins: 1 Vin, 2 GND, 3 Vout

## RES SMD 75K OHM 1% 2W 2512
designator R?, comment 75K 2W
Manufacturer 1: TE Connectivity Passive Product; Manufacturer Part Number 1: 352175KFT; Tolerance: ±1%; Temperature Coefficient: ±100ppm/°C; Description 1: RES SMD 75K OHM 1% 2W 2512; Category 1: Resistors; Packaging: Cut Tape (CT); Part Status: Active; Power (Watts): 2W; Composition: Thick Film; Features: -; Operating Temperature: -55°C ~ 155°C; Package / Case: 2512 (6432 Metric); Supplier Device Package: -; Size / Dimension: 0.248" L x 0.126" W (6.30mm x 3.20mm); Height - Seated (Max): 0.026" (0.65mm); Failure Rate: -; ComponentLink1URL: https://www.te.com/commerce/DocumentDelivery/DDEController?Action=srchrtrv&DocNm=9-1773463-5&DocType=DS&DocLang=English; ComponentLink1Description: https://www.te.com/commerce/DocumentDelivery/DDEController?Action=srchrtrv&DocNm=9-1773463-5&DocType=DS&DocLang=English; Supplier 1: Digi-Key; Supplier Part Number 1: A116077CT-ND; RoHS 1: RoHS Compliant; Stock 1: 1551; Pricing 1: 1=0.71, 10=0.521, 100=0.3037, 1000=0.17031 (USD)
footprint RES2512
pins: 1 G, 2 G

## RES-0805
designator *
footprint 0805 (SMD, 0805)
pins: 1, 2

## SMAJ5.0CA
designator D?  Manufacturer Part Number 1: SMAJ5.0CA  (hidden comment: *)
Manufacturer 1: BOURNS; Description 1: BOURNS - SMAJ5.0CA - DIODE; Supplier 1: Newark; Supplier Part Number 1: 67R1574; RoHS 1: YES; Stock 1: 3644; Pricing 1: 1=0.45, 25=0.353, 50=0.298, 100=0.242, 250=0.204, 500=0.166, 1000=0.125 (USD); ComponentLink1URL: http://www.farnell.com/datasheets/2040202.pdf; ComponentLink1Description: http://www.farnell.com/datasheets/2040202.pdf; ComponentLink2URL: http://www.farnell.com/datasheets/2076055.pdf; ComponentLink2Description: http://www.farnell.com/datasheets/2076055.pdf; ComponentLink3URL: http://www.bourns.com/data/global/pdfs/SMAJ.pdf#search=%22SMAJ100A%22; ComponentLink3Description: http://www.bourns.com/data/global/pdfs/SMAJ.pdf#search=%22SMAJ100A%22
footprint DFN440P429X229-2N (DFN, 2-Leads, Body 2.59x4.29mm, Pitch 4.40mm, IPC Medium Density)
pins: 1 Vout, 2 Vout

## Test_Point
designator TP?  (value not drawn)
footprint Test_Point
pins: 1

## TLC7528CDWR
designator *
pins: 1 AGND, 2 OUTA, 3 RFBA, 4 REFA, 5 DGND, 6 DACA/B, 7 (MSB)DB7, 8 DB6, 9 DB5, 10 DB4, 11 DB3, 12 DB2, 13 DB1, 14 DB0(LSB), 15 ~{CS}, 16 ~{WR}, 17 Vdd, 18 REFB, 19 RFBB, 20 OUTB

## TLC7528EDW
designator *
footprint SOIC-20
pins: 1 AGND, 2 OUTA, 3 RFBA, 4 REFA, 5 DGND, 6 ~{DACA}/DACB, 7 MSB D7, 8 D6, 9 D5, 10 D4, 11 D3, 12 D2, 13 D1, 14 D0, 15 ~{CS}, 16 ~{WR}, 17 VDD, 18 REFB, 19 RFB, 20 OUTB

## TRAFO_15x15
designator TR?, comment 10:10:150
Coil Forme: B66414B6008T001; Yoke: B66414B2000X000; Cover Plate: B66414A7000X000; link PDF: https://www.tdk-electronics.tdk.com/inf/80/db/fer/efd_15_8_5.pdf
footprint Trafo_15x15
pins: 1 G, 2 G, 3 G, 4 G, 5 G, 8 G

## VX78012-500
designator IC?
footprint VREG
pins: 1 Vin, 2 GND, 3 Vout

## Zener 12V
designator D?  (value not drawn)
Manufacturer 1: Comchip Technology; Manufacturer Part Number 1: CDBA140-G; Description 1: DIODE SCHOTTKY 40V 1A DO214AC; Category 1: Discrete Semiconductor Products; Diode Type: Schottky; Current - Average Rectified (Io): 1A; Speed: Fast Recovery =< 500ns, > 200mA (Io); Supplier 1: Digi-Key; Supplier Part Number 1: 641-1015-1-ND; RoHS 1: RoHS Compliant; Stock 1: 527910; Pricing 1: 1=0.37, 10=0.338, 100=0.1893, 500=0.1014, 1000=0.06895 (USD); Packaging: Cut Tape (CT); Part Status: Active; Capacitance @ Vr, F: -; Mounting Type: Surface Mount; Package / Case: DO-214AC, SMA; Supplier Device Package: DO-214AC (SMA); Operating Temperature - Junction: -65°C ~ 125°C; Base Part Number: CDBA140; ComponentLink1URL: http://www.comchiptech.com/admin/files/product/CDBA140-HF%20Thru192841.%20CDBA1100-HF%20RevB.pdf; ComponentLink1Description: http://www.comchiptech.com/admin/files/product/CDBA140-HF%20Thru192841.%20CDBA1100-HF%20RevB.pdf
footprint DFN380P520X45-2N (DFN, 2-Leads, Body 2.50x5.20mm, Pitch 3.80mm, IPC Medium Density)
pins: 1 A, 2 A